# Altium schematic symbol library 5ET 10-R.SchLib: 1 symbol
Pins are listed as number, name and electrical type; pins without a type are passive.

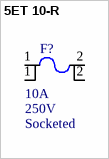
[diagram p0: symbol 5ET 10-R]

## 5ET 10-R
designator F?  Voltage Rating: 250V  Type: Socketed  Current Rating: 10A  (hidden comment: 5ET 10-R)
10A Cartridge Fuse Slow-Blow with two 20A Fuse Clips 01000020Z; Manufacturer: Bel Fuse; PN: 5ET 10-R; Package: 5x20mm Cartridge; Footprint: 01000020Z_20mm; Supplier 1: Mouser; Supplier Part Number 1: 530-2JS7-R; ComponentLink1Description: Datasheet; ComponentLink1URL: https://www.mouser.ca/datasheet/2/643/ds-CP-5et-5etp-series-1313106.pdf; ComponentLink2Description: Fuse Clip Datasheet; ComponentLink2URL: https://www.mouser.ca/datasheet/2/240/Littelfuse_Fuse_Clip_100_445_030_520_Datasheet.pdf-370244.pdf; Fuse Clip PN: 01000020Z
footprint 01000020Z_20mm
pins: 1, 1, 2, 2